# Altium schematic symbol library dev.SchLib: 95 symbols
Pins are listed as number, name and electrical type; pins without a type are passive.

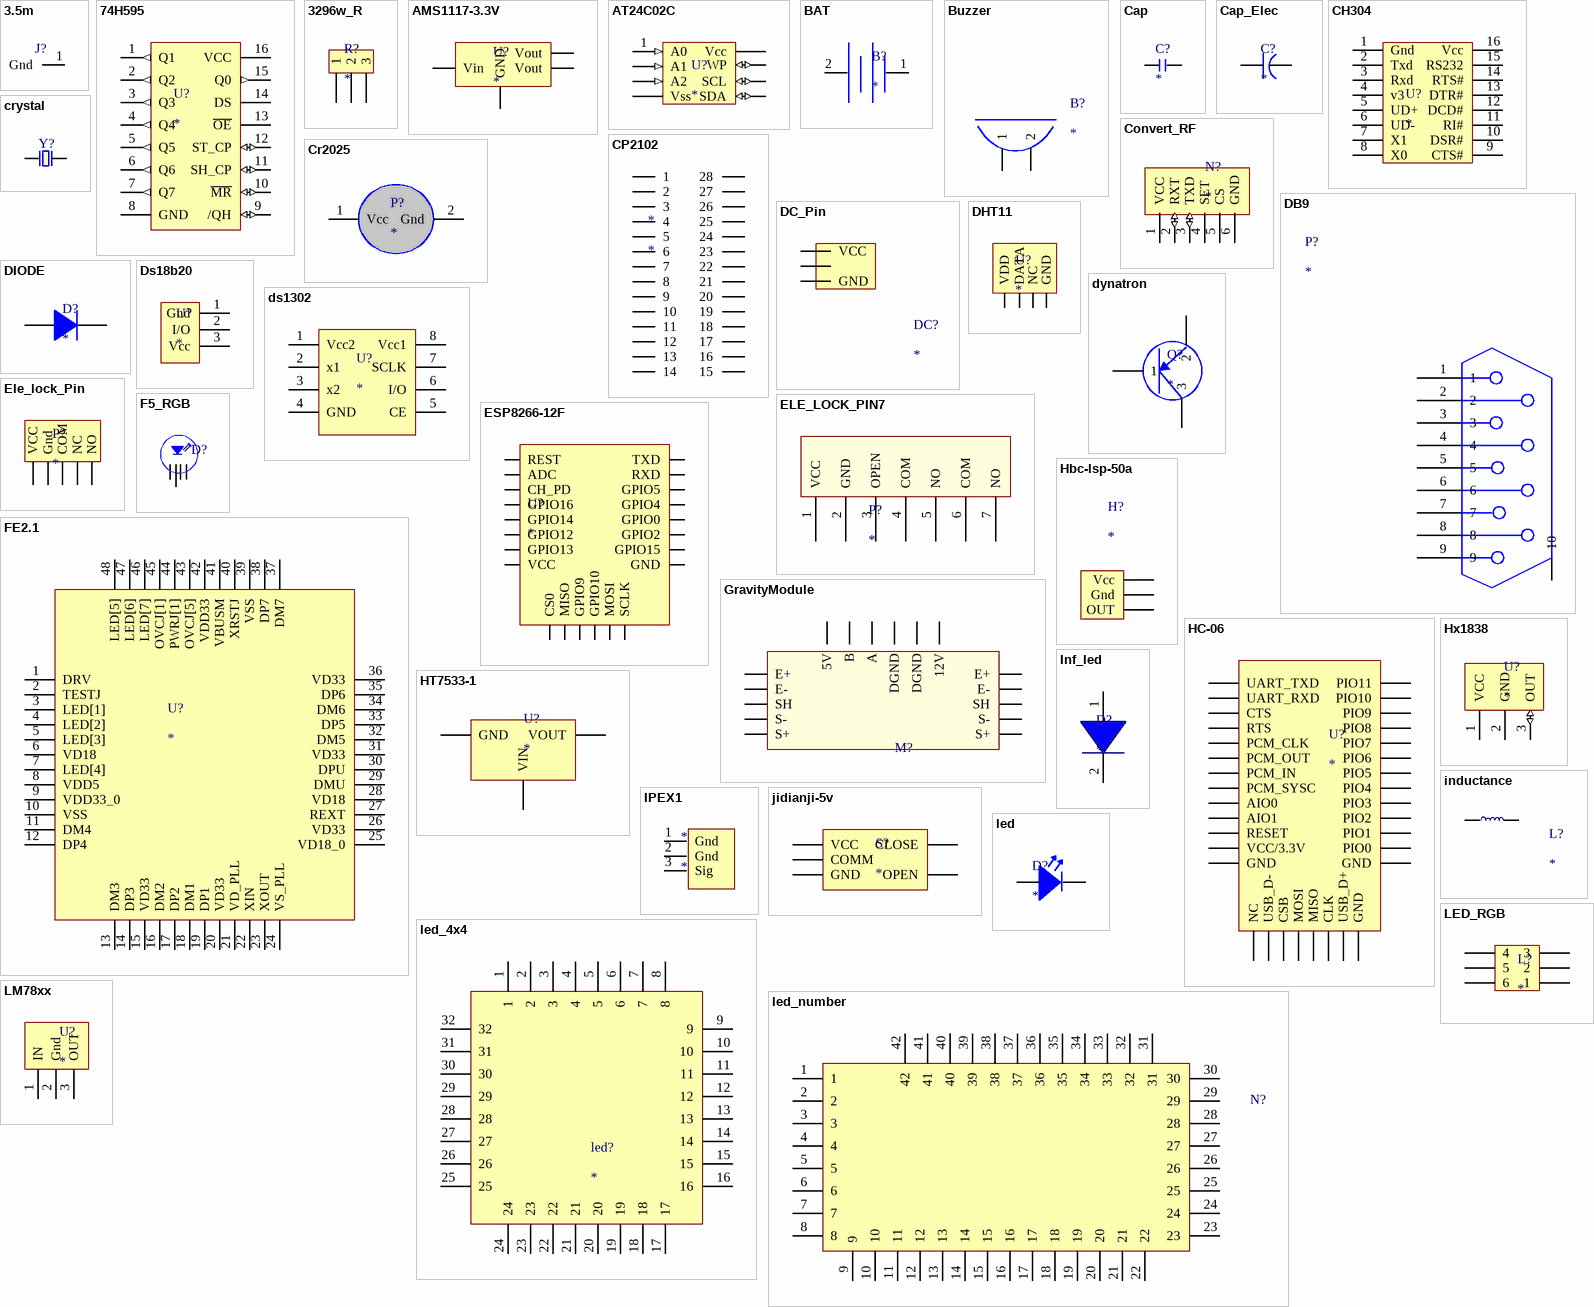
[diagram p0: symbols 3.5m to LM78xx]

## 3.5m
designator J?
footprint 3.5mm
pins: 1 Gnd

## 74H595
designator U?
footprint SOP16
pins: 1 Q1 (out), 2 Q2 (out), 3 Q3 (out), 4 Q4 (out), 5 Q5 (out), 6 Q6 (out), 7 Q7 (out), 8 GND (power), 9 /QH (io), 10 ~{MR} (io), 11 SH_CP (io), 12 ST_CP (io), 13 ~{OE}, 14 DS, 15 Q0 (out), 16 VCC (power)

## 3296w_R
designator R?
footprint 3296w
pins: 1, 2, 3

## AMS1117-3.3V
designator U?
footprint SOT-89
footprint SOT-223
pins: 1 GND (power), 2 Vout, 3 Vin (power), 4 Vout

## AT24C02C
designator U?
footprint SOP8
pins: 1 A0 (in), 2 A1 (in), 3 A2 (in), 4 Vss (power), 5 SDA (io), 6 SCL (io), 7 WP (io), 8 Vcc (power)

## BAT
designator B?
footprint CR1220
pins: 1 VCC, 2

## Buzzer
designator B?
footprint 12mm*6mm
pins: 1, 2

## Cap
designator C?
footprint 1206
footprint 0805
footprint 0603
pins: 1, 2

## Cap_Elec
designator C?
footprint CAP_DIP_5.22mm
footprint CAP_8.2mm*8.2mm
footprint CAP_6.6mm*6.6mm
footprint 1206
footprint DIP2_8.3x3.1
footprint 10mmx10mm+
footprint 8x10x8
pins: 1, 2

## CH304
designator U?
footprint SOP16
pins: 1 Gnd, 2 Txd, 3 Rxd, 4 v3, 5 UD+, 6 UD-, 7 X1, 8 X0, 9 CTS#, 10 DSR#, 11 RI#, 12 DCD#, 13 DTR#, 14 RTS#, 15 RS232, 16 Vcc

## Convert_RF
designator N?
footprint Convert_rf
footprint LC12S
pins: 1 VCC, 2 RXT (io), 3 TXD (io), 4 SET, 5 CS, 6 GND

## CP2102
designator *
pins: 1, 2, 3, 4, 5, 6, 7, 8, 9, 10, 11, 12, 13, 14, 15, 16, 17, 18, 19, 20, 21, 22, 23, 24, 25, 26, 27, 28

## Cr2025
designator P?
footprint CR2025
pins: 1 Vcc (power), 2 Gnd (power)

## crystal
designator Y?  (value not drawn)
footprint crystal
footprint PIN1.1
pins: 1, 2

## DB9
designator P?
footprint DB9_M (Footprint not found)
pins: 1, 2, 3, 4, 5, 6, 7, 8, 9, 10

## DC_Pin
designator DC?
footprint POWER_PIN_PCB
pins: 1 VCC (power), 2 GND (power), 3 GND (power)

## DHT11
designator U?
footprint DHT11
pins: 1 VDD (power), 2 DATA (io), 3 NC, 4 GND (power)

## DIODE
designator D?
footprint 1206
footprint 0603
footprint DO-214AA
footprint Dip-6mm
pins: 1, 2

## Ds18b20
designator U?
footprint to-92
pins: 1 Gnd (power), 2 I/O, 3 Vcc (power)

## ds1302
designator U?
footprint DIP8
footprint SOP8
pins: 1 Vcc2, 2 x1, 3 x2, 4 GND, 5 CE, 6 I/O, 7 SCLK, 8 Vcc1

## dynatron
designator Q?
footprint sot-23
pins: 1, 2, 3

## Ele_lock_Pin
designator P?
footprint Pin5
pins: 1 VCC, 2 Gnd, 3 COM, 4 NC, 5 NO

## ELE_LOCK_PIN7
designator P?
footprint KF2EDGK-7
footprint KF2EDGK3.81-7P (Footprint not found)
pins: 1 VCC, 2 GND, 3 OPEN, 4 COM, 5 NO, 6 COM, 7 NO

## ESP8266-12F
designator U?
footprint ESP8266-12F
pins: 1 REST, 2 ADC, 3 CH_PD, 4 GPIO16, 5 GPIO14, 6 GPIO12, 7 GPIO13, 8 VCC, 9 CS0, 10 MISO, 11 GPIO9, 12 GPIO10, 13 MOSI, 14 SCLK, 15 GND, 16 GPIO15, 17 GPIO2, 18 GPIO0, 19 GPIO4, 20 GPIO5, 21 RXD, 22 TXD

## F5_RGB
designator D?  (value not drawn)
footprint DIP_4_RGB
pins: 1, 2, 3, 4

## FE2.1
designator U?
footprint LQFP48
pins: 1 DRV, 2 TESTJ, 3 LED[1], 4 LED[2], 5 LED[3], 6 VD18, 7 LED[4], 8 VDD5, 9 VDD33_0, 10 VSS, 11 DM4, 12 DP4, 13 DM3, 14 DP3, 15 VD33, 16 DM2, 17 DP2, 18 DM1, 19 DP1, 20 VD33, 21 VD_PLL, 22 XIN, 23 XOUT, 24 VS_PLL, 25 VD18_0, 26 VD33, 27 REXT, 28 VD18, 29 DMU, 30 DPU, 31 VD33, 32 DM5, 33 DP5, 34 DM6, 35 DP6, 36 VD33, 37 DM7, 38 DP7, 39 VSS, 40 XRSTJ, 41 VBUSM, 42 VDD33, 43 OVCJ[5], 44 PWRJ[1], 45 OVCJ[1], 46 LED[7], 47 LED[6], 48 LED[5]

## GravityModule
designator M?  (value not drawn)
footprint GravityModule
pins: 1 E+, 2 E-, 3 SH, 4 S-, 5 S+, 6 E+, 7 E-, 8 SH, 9 S-, 10 S+, 11 5V, 12 B, 13 A, 14 DGND, 15 DGND, 16 12V

## Hbc-lsp-50a
designator H?
footprint HBC-LSP
pins: 1 Vcc, 2 Gnd, 3 OUT

## HC-06
designator U?
footprint HC-06
pins: 1 UART_TXD, 2 UART_RXD, 3 CTS, 4 RTS, 5 PCM_CLK, 6 PCM_OUT, 7 PCM_IN, 8 PCM_SYSC, 9 AIO0, 10 AIO1, 11 RESET, 12 VCC/3.3V, 13 GND, 14 NC, 15 USB_D-, 16 CSB, 17 MOSI, 18 MISO, 19 CLK, 20 USB_D+, 21 GND, 22 GND, 23 PIO0, 24 PIO1, 25 PIO2, 26 PIO3, 27 PIO4, 28 PIO5, 29 PIO6, 30 PIO7, 31 PIO8, 32 PIO9, 33 PIO10, 34 PIO11

## HT7533-1
designator U?
footprint SOT-89
pins: 1 GND (power), 2 VIN (power), 3 VOUT (power)

## Hx1838
designator U?
footprint PIN3
pins: 1 VCC (power), 2 GND (power), 3 OUT (io)

## inductance
designator L?
footprint dg_5_10
footprint 1270
footprint 7*7*4
footprint 12x12x7
pins: 1, 2

## Inf_led
designator D?
footprint DIP_2.54
pins: 1, 2

## IPEX1
designator *
footprint IPEX_1
pins: 1 Gnd, 2 Gnd, 3 Sig

## jidianji-5v
designator S?
footprint jidianqi
pins: 1 VCC, 2 GND, 3 OPEN, 4 CLOSE, 5 COMM

## led
designator D?
footprint 0603
pins: 1, 2

## led_4x4
designator led?
footprint LED_4X4
pins: 1, 2, 3, 4, 5, 6, 7, 8, 9, 10, 11, 12, 13, 14, 15, 16, 17, 18, 19, 20, 21, 22, 23, 24, 25, 26, 27, 28, 29, 30, 31, 32

## led_number
designator N?  (value not drawn)
footprint LED_NUMBER
pins: 1, 2, 3, 4, 5, 6, 7, 8, 9, 10, 11, 12, 13, 14, 15, 16, 17, 18, 19, 20, 21, 22, 23, 24, 25, 26, 27, 28, 29, 30, 31, 32, 33, 34, 35, 36, 37, 38, 39, 40, 41, 42

## LED_RGB
designator L?
footprint 5050_p6
pins: 1, 2, 3, 4, 5, 6

## LM78xx
designator U?
pins: 1 IN, 2 Gnd, 3 OUT

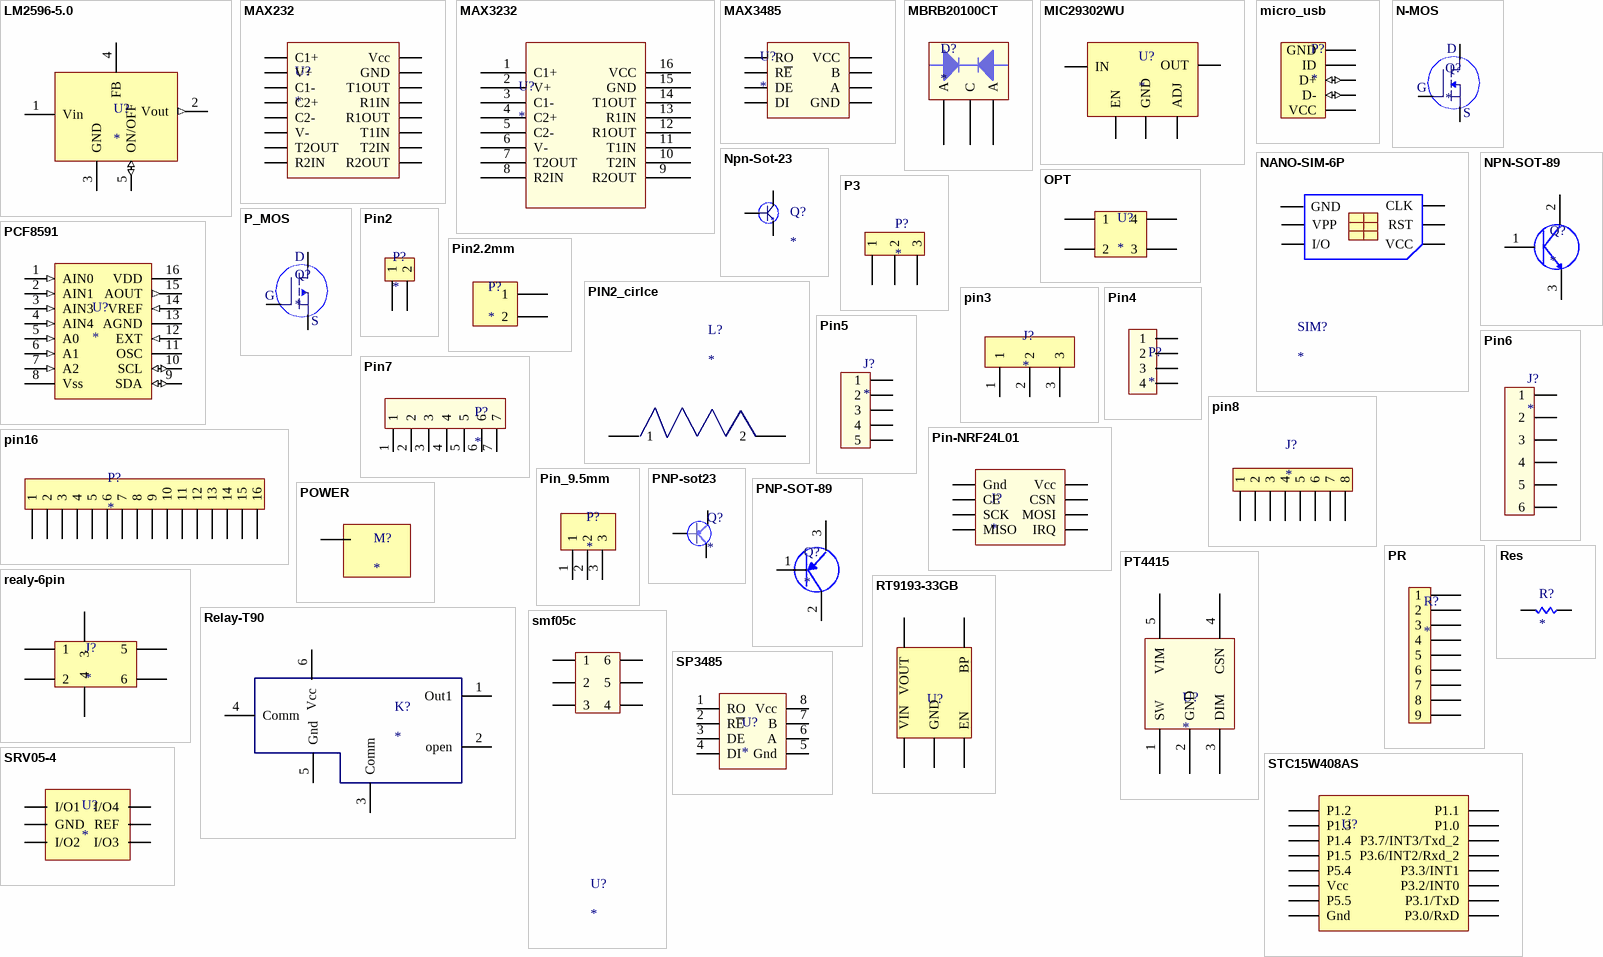
[diagram p1: symbols LM2596-5.0 to STC15W408AS]

## LM2596-5.0
designator U?
footprint TO-263-5
pins: 1 Vin (power), 2 Vout (out), 3 GND (power), 4 FB, 5 ON/OFF (io)

## MAX232
designator U?
footprint SOP16
pins: 1 C1+, 2 V+, 3 C1-, 4 C2+, 5 C2-, 6 V-, 7 T2OUT, 8 R2IN, 9 R2OUT, 10 T2IN, 11 T1IN, 12 R1OUT, 13 R1IN, 14 T1OUT, 15 GND, 16 Vcc

## MAX3232
designator U?
footprint SOP16
pins: 1 C1+, 2 V+, 3 C1-, 4 C2+, 5 C2-, 6 V-, 7 T2OUT, 8 R2IN, 9 R2OUT, 10 T2IN, 11 T1IN, 12 R1OUT, 13 R1IN, 14 T1OUT, 15 GND, 16 VCC

## MAX3485
designator U?
footprint SOP8
pins: 1 RO, 2 R~{E}, 3 DE, 4 DI, 5 GND, 6 A, 7 B, 8 VCC

## MBRB20100CT
designator D?
footprint D2PAK
pins: 1 A, 2 C, 3 A

## MIC29302WU
designator U?
footprint TO-263-5
pins: 1 EN, 2 IN, 3 GND, 4 OUT, 5 ADJ

## micro_usb
designator P?
footprint micro_usb
pins: 1 VCC (power), 2 D- (io), 3 D+ (io), 4 ID, 5 GND (power)

## N-MOS
designator Q?
footprint SOT-23-3
pins: 1 G, 2 S, 3 D

## NANO-SIM-6P
designator SIM?
footprint NANO-SIM-6P
pins: 1 VCC, 2 RST, 3 CLK, 5 GND, 6 VPP, 7 I/O

## Npn-Sot-23
designator Q?
footprint sot-23
pins: 1, 2, 3

## NPN-SOT-89
designator Q?
footprint SOT-89
pins: 1, 2, 3

## OPT
designator U?
footprint SOP4
pins: 1, 2, 3, 4

## P3
designator P?
footprint P3
pins: 1, 2, 3

## P_MOS
designator Q?
footprint TO-220AB
footprint TO-252
footprint D2PAK
pins: 1 G, 2 D, 3 S

## PCF8591
designator U?
footprint SOP16
pins: 1 AIN0 (in), 2 AIN1 (in), 3 AIN3 (in), 4 AIN4 (in), 5 A0 (in), 6 A1 (in), 7 A2 (in), 8 Vss (power), 9 SDA (io), 10 SCL (io), 11 OSC, 12 EXT (in), 13 AGND (power), 14 VREF (in), 15 AOUT (out), 16 VDD (power)

## Pin2
designator P?
footprint PIN2
footprint XH2.54_2
footprint XH2.54_PIN2_L
pins: 1, 2

## Pin2.2mm
designator P?
footprint PIN2.2MM
pins: 1, 2

## PIN2_cirlce
designator L?
footprint L_4.65MM
pins: 1, 2

## pin3
designator J?
footprint PIN3
footprint KF2EDG3.81-3P
footprint VH3.96-3P
pins: 1, 2, 3

## Pin4
designator P?
footprint KF2EDG3.81-4P
footprint XH2.54-4P
footprint PIN4
pins: 1, 2, 3, 4

## Pin5
designator J?
footprint XH2.54-5P
footprint KF2EDG3.81-5P
footprint 2.54-5p
pins: 1, 2, 3, 4, 5

## Pin6
designator J?
footprint 2.54-6p
pins: 1, 2, 3, 4, 5, 6

## Pin7
designator P?
footprint Pin_7_3.5mm
pins: 1, 2, 3, 4, 5, 6, 7

## pin8
designator J?
footprint PIN8
footprint KF2EDG3.81-8P
pins: 1, 2, 3, 4, 5, 6, 7, 8

## pin16
designator P?
footprint PIN16
pins: 1, 2, 3, 4, 5, 6, 7, 8, 9, 10, 11, 12, 13, 14, 15, 16

## Pin-NRF24L01
designator J?
footprint PIN2.54-2X-4P-M
pins: 1 Gnd, 2 Vcc, 3 CE, 4 CSN, 5 SCK, 6 MOSI, 7 MISO, 8 IRQ

## Pin_9.5mm
designator P?
footprint PIN_9.5MM
pins: 1, 2, 3

## PNP-sot23
designator Q?
footprint sot-23
pins: 1, 2, 3

## PNP-SOT-89
designator Q?
footprint SOT-89
pins: 1, 2, 3

## POWER
designator M?
footprint power
pins: 1

## PR
designator R?
footprint PR
pins: 1, 2, 3, 4, 5, 6, 7, 8, 9

## PT4415
designator U?
footprint SOT89-5
pins: 1 SW, 2 GND, 3 DIM, 4 CSN, 5 VIM

## realy-6pin
designator J?
footprint relay-6pin
pins: 1, 2, 3, 4, 5, 6

## Relay-T90
designator K?
footprint Relay-T90
pins: 1 Out1 "1", 2 open "2", 3 Comm "3", 4 Comm "4", 5 Gnd "5", 6 Vcc "6"

## Res
designator R?
footprint 1206
footprint 0805
footprint 2512
footprint 0603
footprint ATIAL-1.2
footprint PIN2
footprint PIN3.81
footprint DIP-5.5mm
pins: 1, 2

## RT9193-33GB
designator U?  (value not drawn)
footprint sot-23-5
pins: 1 VIN, 2 GND, 3 EN, 4 BP, 5 VOUT

## smf05c
designator U?
footprint SC70-6L
pins: 1, 2, 3, 4, 5, 6

## SP3485
designator U?
footprint SOP8
pins: 1 RO, 2 R~{E}, 3 DE, 4 DI, 5 Gnd, 6 A, 7 B, 8 Vcc

## SRV05-4
designator U?
footprint Sot-23-6
pins: 1 I/O1, 2 GND, 3 I/O2, 4 I/O3, 5 REF, 6 I/O4

## STC15W408AS
designator U?  (value not drawn)
footprint SOP16
pins: 1 P1.2, 2 P1.3, 3 P1.4, 4 P1.5, 5 P5.4, 6 Vcc, 7 P5.5, 8 Gnd, 9 P3.0/RxD, 10 P3.1/TxD, 11 P3.2/INT0, 12 P3.3/INT1, 13 P3.6/INT2/Rxd_2, 14 P3.7/INT3/Txd_2, 15 P1.0, 16 P1.1

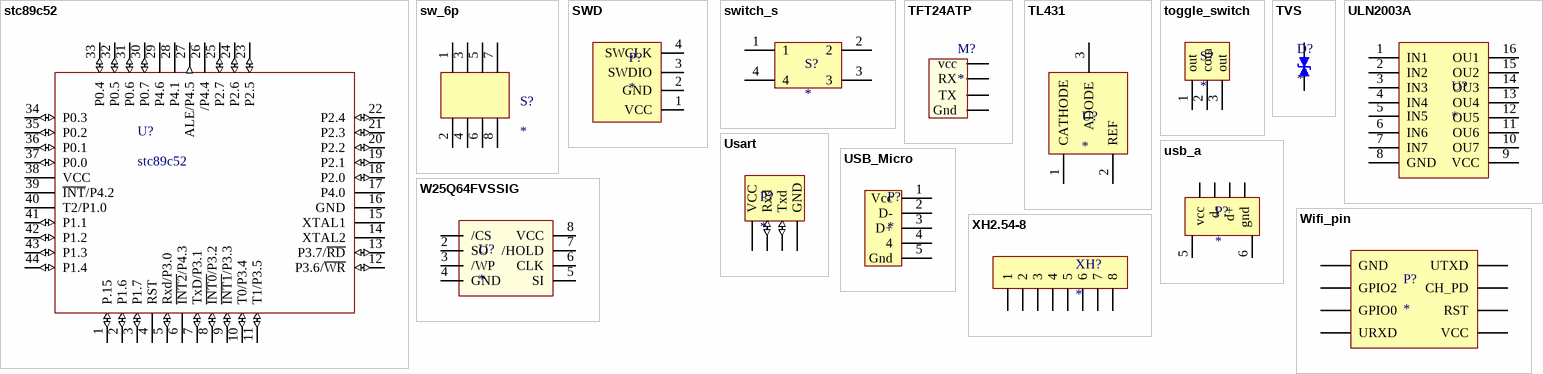
[diagram p2: symbols stc89c52 to XH2.54-8]

## stc89c52
designator U?
footprint lqfp44
pins: 1 P.15 (io), 2 P1.6 (io), 3 P1.7 (io), 4 RST, 5 Rxd/P3.0 (io), 6 ~{INT2}/P4.3, 7 TxD/P3.1 (io), 8 ~{INT0}/P3.2 (io), 9 ~{INT1}/P3.3 (io), 10 T0/P3.4 (io), 11 T1/P3.5 (io), 12 P3.6/~{WR} (io), 13 P3.7/~{RD} (io), 14 XTAL2, 15 XTAL1, 16 GND (power), 17 P4.0, 18 P2.0 (io), 19 P2.1 (io), 20 P2.2 (io), 21 P2.3 (io), 22 P2.4 (io), 23 P2.5 (io), 24 P2.6 (io), 25 P2.7 (io), 26 /P4.4, 27 ALE/P4.5 (out), 28 P4.1, 29 P4.6, 30 P0.7 (io), 31 P0.6 (io), 32 P0.5 (io), 33 P0.4 (io), 34 P0.3 (io), 35 P0.2 (io), 36 P0.1 (io), 37 P0.0 (io), 38 VCC (power), 39 ~{INT}/P4.2, 40 T2/P1.0, 41 P1.1 (io), 42 P1.2 (io), 43 P1.3 (io), 44 P1.4 (io)

## sw_6p
designator S?
footprint SW_6P
pins: 1, 2, 3, 4, 5, 6, 7, 8

## SWD
designator P?
footprint PIN4
pins: 1 VCC, 2 GND, 3 SWDIO, 4 SWCLK

## switch_s
designator S?
footprint SWITCH_PIN4
pins: 1, 2, 3, 4

## TFT24ATP
designator M?
footprint TFT24ATP
pins: 1 vcc, 2 RX, 3 TX, 4 Gnd

## TL431
designator U?
footprint SOT-23
pins: 1 CATHODE, 2 REF, 3 ADODE

## toggle_switch
designator S?
footprint toggle_switch
pins: 1 out, 2 com, 3 out

## TVS
designator D?
footprint 0603
pins: 1, 2

## ULN2003A
designator U?
footprint DIP16
footprint SOP16
footprint S_DIP16
pins: 1 IN1, 2 IN2, 3 IN3, 4 IN4, 5 IN5, 6 IN6, 7 IN7, 8 GND, 9 VCC, 10 OU7, 11 OU6, 12 OU5, 13 OU4, 14 OU3, 15 OU2, 16 OU1

## Usart
designator P?
footprint PIN4
pins: 1 VCC (power), 2 Rxd (io), 3 Txd (io), 4 GND (power)

## usb_a
designator P?
footprint USB
pins: 1 vcc, 2 d-, 3 d+, 4 gnd, 5, 6

## USB_Micro
designator P?
footprint USB_Micro
pins: 1 Vcc (power) "1", 2 D- "2", 3 D+ "3", 4, 5 Gnd (power) "5"

## W25Q64FVSSIG
designator U?
footprint SOIC-8
pins: 1 /CS, 2 SO, 3 /WP, 4 GND, 5 SI, 6 CLK, 7 /HOLD, 8 VCC

## Wifi_pin
designator P?
footprint wifi
pins: 1 GND, 2 GPIO2, 3 GPIO0, 4 URXD, 5 VCC, 6 RST, 7 CH_PD, 8 UTXD

## XH2.54-8
designator XH?
footprint XH2.54-8
pins: 1, 2, 3, 4, 5, 6, 7, 8